# Altium footprint library Molex Microfit.PCBLIB: 196 footprints (part 10 of 13)
Each footprint in its own frame and in the unit in brackets; x right, y up, seen from the top. Pads: shape width x height; smd on the part's side, far side on the other; paste and mask are expansions set on the pad; w line width, h text height; cw(c..) or ccw(c..) is an arc to the next point about the centre after c.
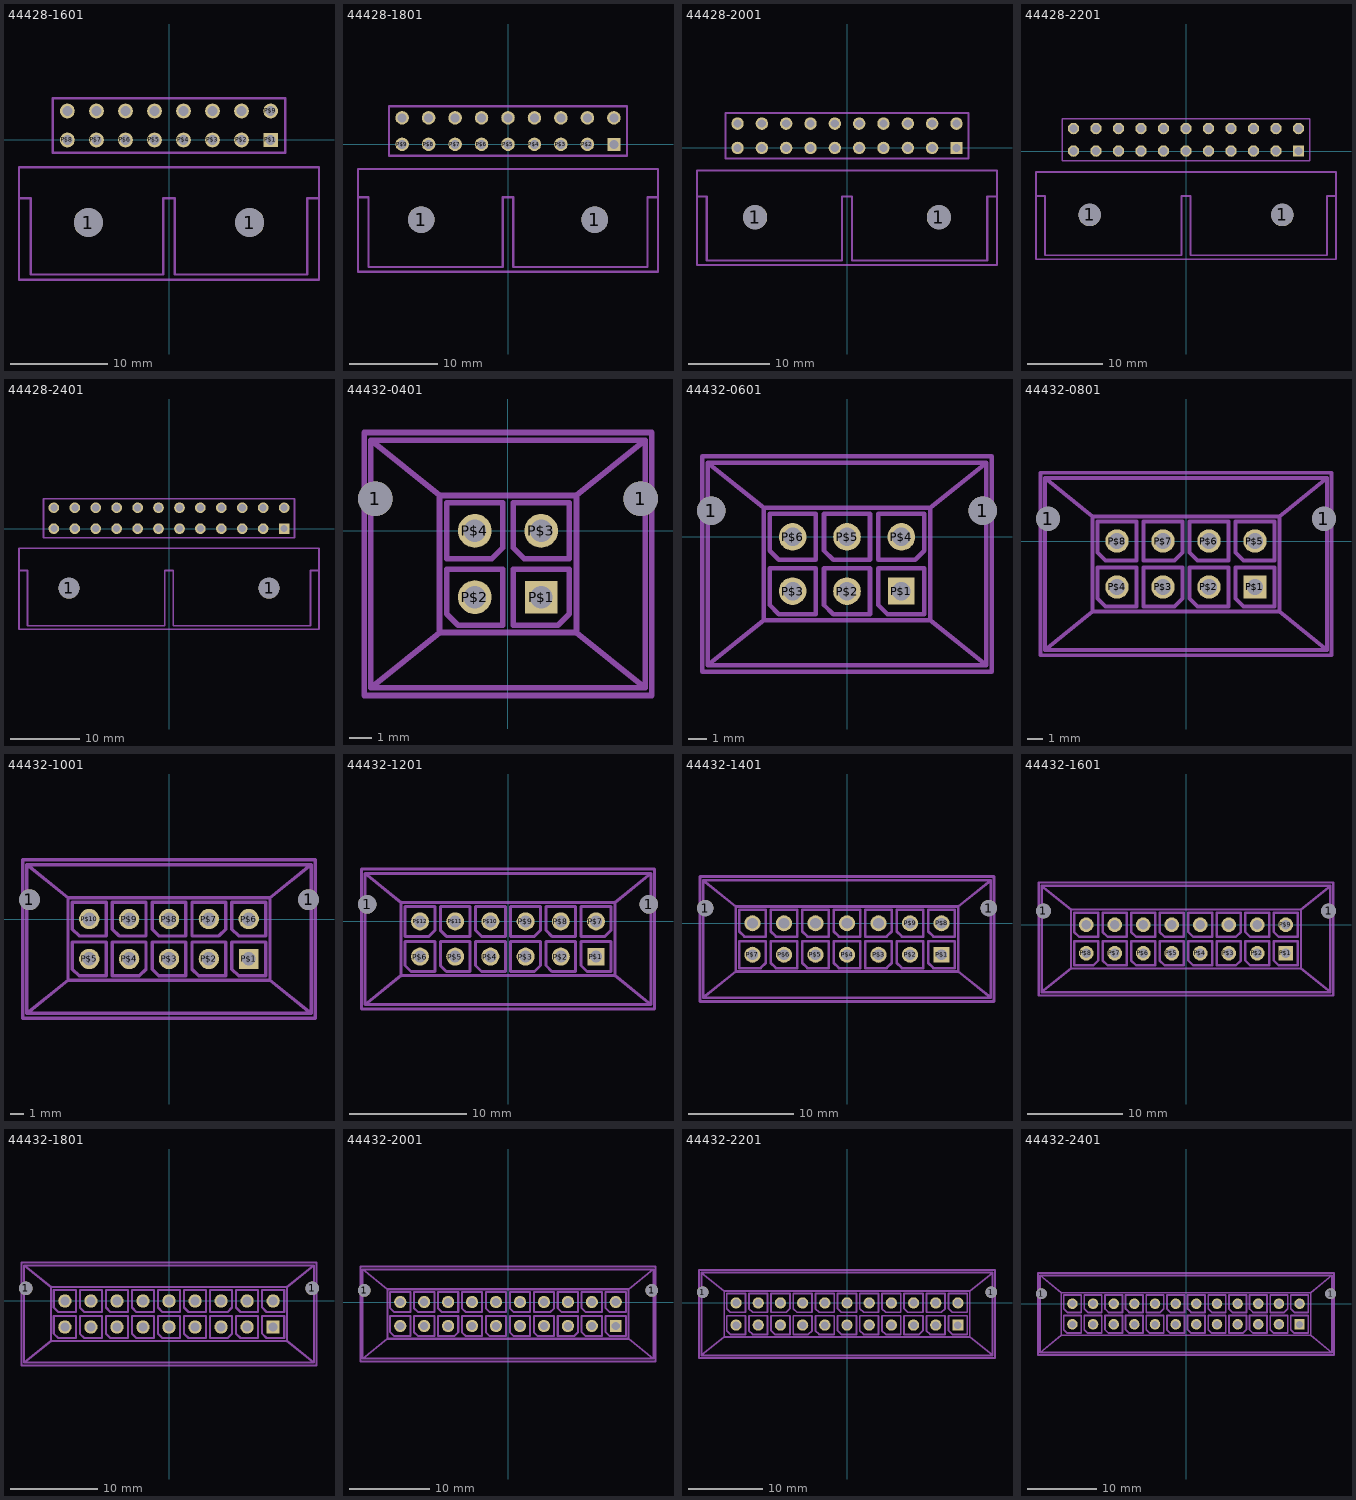
[diagram p9: the footprints below, top view; thin cyan lines are the x and y axes]

## 44428-1601 [mm]
pads (18):
  round 3 hole 3 unplated: 1(-8.34,-8.53) 1(8.34,-8.53)
  rect 1.482x1.482 / inner rect 1.524x1.524 / far side rect 1.482x1.482 hole 1.02: P$1(10.5,0)
  round 1.53 / inner round 1.524 / far side round 1.53 hole 1.02: P$2(7.5,0) P$3(4.5,0) P$4(1.5,0) P$5(-1.5,0) P$6(-4.5,0) P$7(-7.5,0) P$8(-10.5,0) P$9(10.5,3) P$10(7.5,3) P$11(4.5,3) P$12(1.5,3) P$13(-1.5,3) P$14(-4.5,3) P$15(-7.5,3) P$16(-10.5,3)
Mechanical 22:
  lines w0.254: -15.5,-6 -15.5,-2.8 15.5,-2.8 15.5,-6 ; -15.5,-6 -15.5,-14.43 15.5,-14.43 15.5,-6 ; -15.5,-6 -14.3,-6 -14.3,-13.9 -0.6,-13.9 -0.6,-6 0.6,-6 0.6,-13.9 14.3,-13.9 14.3,-6 15.5,-6 ; -12,-1.3 12,-1.3 12,4.3 -12,4.3 -12,-1.3

## 44428-1801 [mm]
pads (20):
  round 3 hole 3 unplated: 1(-9.84,-8.53) 1(9.84,-8.53)
  rect 1.482x1.482 / inner rect 1.524x1.524 / far side rect 1.482x1.482 hole 1.02: P$1(12,0)
  round 1.53 / inner round 1.524 / far side round 1.53 hole 1.02: P$2(9,0) P$3(6,0) P$4(3,0) P$5(0,0) P$6(-3,0) P$7(-6,0) P$8(-9,0) P$9(-12,0) P$10(12,3) P$11(9,3) P$12(6,3) P$13(3,3) P$14(0,3) P$15(-3,3) P$16(-6,3) P$17(-9,3) P$18(-12,3)
Mechanical 22:
  lines w0.254: -17,-6 -17,-2.8 17,-2.8 17,-6 ; -17,-6 -17,-14.43 17,-14.43 17,-6 ; -17,-6 -15.8,-6 -15.8,-13.9 -0.6,-13.9 -0.6,-6 0.6,-6 0.6,-13.9 15.8,-13.9 15.8,-6 17,-6 ; -13.5,-1.3 13.5,-1.3 13.5,4.3 -13.5,4.3 -13.5,-1.3

## 44428-2001 [mm]
pads (22):
  round 3 hole 3 unplated: 1(-11.34,-8.53) 1(11.34,-8.53)
  rect 1.482x1.482 / inner rect 1.524x1.524 / far side rect 1.482x1.482 hole 1.02: P$1(13.5,0)
  round 1.53 / inner round 1.524 / far side round 1.53 hole 1.02: P$2(10.5,0) P$3(7.5,0) P$4(4.5,0) P$5(1.5,0) P$6(-1.5,0) P$7(-4.5,0) P$8(-7.5,0) P$9(-10.5,0) P$10(-13.5,0) P$11(13.5,3) P$12(10.5,3) P$13(7.5,3) P$14(4.5,3) P$15(1.5,3) P$16(-1.5,3) P$17(-4.5,3) P$18(-7.5,3) P$19(-10.5,3) P$20(-13.5,3)
Mechanical 22:
  lines w0.254: -18.5,-6 -18.5,-2.8 18.5,-2.8 18.5,-6 ; -18.5,-6 -18.5,-14.43 18.5,-14.43 18.5,-6 ; -18.5,-6 -17.3,-6 -17.3,-13.9 -0.6,-13.9 -0.6,-6 0.6,-6 0.6,-13.9 17.3,-13.9 17.3,-6 18.5,-6 ; -15,-1.3 15,-1.3 15,4.3 -15,4.3 -15,-1.3

## 44428-2201 [mm]
pads (24):
  round 3 hole 3 unplated: 1(-12.84,-8.53) 1(12.84,-8.53)
  rect 1.482x1.482 / inner rect 1.524x1.524 / far side rect 1.482x1.482 hole 1.02: P$1(15,0)
  round 1.53 / inner round 1.524 / far side round 1.53 hole 1.02: P$2(12,0) P$3(9,0) P$4(6,0) P$5(3,0) P$6(0,0) P$7(-3,0) P$8(-6,0) P$9(-9,0) P$10(-12,0) P$11(-15,0) P$12(15,3) P$13(12,3) P$14(9,3) P$15(6,3) P$16(3,3) P$17(0,3) P$18(-3,3) P$19(-6,3) P$20(-9,3) P$21(-12,3) P$22(-15,3)
Mechanical 22:
  lines w0.254: -20,-6 -18.8,-6 -18.8,-13.9 -0.6,-13.9 -0.6,-6 0.6,-6 0.6,-13.9 18.8,-13.9 18.8,-6 20,-6 ; -20,-6 -20,-14.43 20,-14.43 20,-6 ; -20,-6 -20,-2.8 20,-2.8 20,-6 ; -16.5,-1.3 -16.5,4.3 16.5,4.3 16.5,-1.3 -16.5,-1.3

## 44428-2401 [mm]
pads (26):
  round 3 hole 3 unplated: 1(-14.34,-8.53) 1(14.34,-8.53)
  rect 1.482x1.482 / inner rect 1.524x1.524 / far side rect 1.482x1.482 hole 1.02: P$1(16.5,0)
  round 1.53 / inner round 1.524 / far side round 1.53 hole 1.02: P$2(13.5,0) P$3(10.5,0) P$4(7.5,0) P$5(4.5,0) P$6(1.5,0) P$7(-1.5,0) P$8(-4.5,0) P$9(-7.5,0) P$10(-10.5,0) P$11(-13.5,0) P$12(-16.5,0) P$13(16.5,3) P$14(13.5,3) P$15(10.5,3) P$16(7.5,3) P$17(4.5,3) P$18(1.5,3) P$19(-1.5,3) P$20(-4.5,3) P$21(-7.5,3) P$22(-10.5,3) P$23(-13.5,3) P$24(-16.5,3)
Mechanical 22:
  lines w0.254: -21.5,-6 -20.3,-6 -20.3,-13.9 -0.6,-13.9 -0.6,-6 0.6,-6 0.6,-13.9 20.3,-13.9 20.3,-6 21.5,-6 ; -21.5,-6 -21.5,-14.43 21.5,-14.43 21.5,-6 ; -21.5,-6 -21.5,-2.8 21.5,-2.8 21.5,-6 ; -18,-1.3 -18,4.3 18,4.3 18,-1.3 -18,-1.3

## 44432-0401 [mm]
pads (6):
  round 1.57 hole 1.57 unplated: 1(-6,1.45) 1(6,1.45)
  rect 1.482x1.482 / inner rect 1.524x1.524 / far side rect 1.482x1.482 hole 1.02: P$1(1.5,-3)
  round 1.53 / inner round 1.524 / far side round 1.53 hole 1.02: P$2(-1.5,-3) P$3(1.5,0) P$4(-1.5,0)
Mechanical 22:
  lines w0.254: -6.2,-7.1 6.2,-7.1 ; -6.2,-7.1 -6.2,4.1 ; -6.2,-7.1 -3.1,-4.6 ; -6.2,4.1 6.2,4.1 ; -6.2,4.1 -3.1,1.6 ; -3.1,-4.6 -3.1,1.6 ; -3.1,-4.6 3.1,-4.6 ; -3.1,1.6 3.1,1.6 ; 3.1,-4.6 3.1,1.6 ; 3.1,-4.6 6.2,-7.1 ; 3.1,1.6 6.2,4.1 ; 6.2,-7.1 6.2,4.1 ; -6.5,-7.45 6.5,-7.45 6.5,4.45 -6.5,4.45 -6.5,-7.45 ; -2.77,-3.762 -2.77,-1.73 -0.23,-1.73 -0.23,-4.27 -2.262,-4.27 -2.77,-3.762 ; -2.77,-1.27 -2.77,1.27 -0.23,1.27 -0.23,-0.762 -0.738,-1.27 -2.77,-1.27 ; 0.23,-4.27 0.23,-1.73 2.77,-1.73 2.77,-3.762 2.262,-4.27 0.23,-4.27 ; 0.23,-0.762 0.23,1.27 2.77,1.27 2.77,-1.27 0.738,-1.27 0.23,-0.762
3D body "444320401.stp": height 11.8, standoff -3.06, extent -6.5,-7.45 6.5,4.45

## 44432-0601 [mm]
pads (8):
  round 1.57 hole 1.57 unplated: 1(-7.5,1.45) 1(7.5,1.45)
  rect 1.482x1.482 / inner rect 1.524x1.524 / far side rect 1.482x1.482 hole 1.02: P$1(3,-3)
  round 1.53 / inner round 1.524 / far side round 1.53 hole 1.02: P$2(0,-3) P$3(-3,-3) P$4(3,0) P$5(0,0) P$6(-3,0)
Mechanical 22:
  lines w0.254: -7.7,-7.1 -4.6,-4.6 ; -7.7,-7.1 -7.7,4.1 ; -7.7,-7.1 7.7,-7.1 ; -7.7,4.1 -4.6,1.6 ; -7.7,4.1 7.7,4.1 ; -4.6,-4.6 4.6,-4.6 ; -4.6,-4.6 -4.6,1.6 ; -4.6,1.6 4.6,1.6 ; 4.6,-4.6 7.7,-7.1 ; 4.6,-4.6 4.6,1.6 ; 4.6,1.6 7.7,4.1 ; 7.7,-7.1 7.7,4.1 ; -8,-7.45 -8,4.45 8,4.45 8,-7.45 -8,-7.45 ; -4.27,-3.762 -3.762,-4.27 -1.73,-4.27 -1.73,-1.73 -4.27,-1.73 -4.27,-3.762 ; -4.27,-0.762 -3.762,-1.27 -1.73,-1.27 -1.73,1.27 -4.27,1.27 -4.27,-0.762 ; -1.27,-3.762 -0.762,-4.27 1.27,-4.27 1.27,-1.73 -1.27,-1.73 -1.27,-3.762 ; -1.27,-0.762 -0.762,-1.27 1.27,-1.27 1.27,1.27 -1.27,1.27 -1.27,-0.762 ; 1.73,-3.762 2.238,-4.27 4.27,-4.27 4.27,-1.73 1.73,-1.73 1.73,-3.762 ; 1.73,-1.27 3.762,-1.27 4.27,-0.762 4.27,1.27 1.73,1.27 1.73,-1.27

## 44432-0801 [mm]
pads (10):
  round 1.57 hole 1.57 unplated: 1(-9,1.45) 1(9,1.45)
  rect 1.482x1.482 / inner rect 1.524x1.524 / far side rect 1.482x1.482 hole 1.02: P$1(4.5,-3)
  round 1.53 / inner round 1.524 / far side round 1.53 hole 1.02: P$2(1.5,-3) P$3(-1.5,-3) P$4(-4.5,-3) P$5(4.5,0) P$6(1.5,0) P$7(-1.5,0) P$8(-4.5,0)
Mechanical 22:
  lines w0.254: -9.2,-7.1 -6.1,-4.6 ; -9.2,-7.1 -9.2,4.1 ; -9.2,-7.1 9.2,-7.1 ; -9.2,4.1 -6.1,1.6 ; -9.2,4.1 9.2,4.1 ; -6.1,-4.6 6.1,-4.6 ; -6.1,-4.6 -6.1,1.6 ; -6.1,1.6 6.1,1.6 ; 6.1,-4.6 9.2,-7.1 ; 6.1,-4.6 6.1,1.6 ; 6.1,1.6 9.2,4.1 ; 9.2,-7.1 9.2,4.1 ; -9.5,-7.45 -9.5,4.45 9.5,4.45 9.5,-7.45 -9.5,-7.45 ; -5.77,-3.762 -5.262,-4.27 -3.23,-4.27 -3.23,-1.73 -5.77,-1.73 -5.77,-3.762 ; -5.77,-0.762 -5.262,-1.27 -3.23,-1.27 -3.23,1.27 -5.77,1.27 -5.77,-0.762 ; -2.77,-4.27 -0.738,-4.27 -0.23,-3.762 -0.23,-1.73 -2.77,-1.73 -2.77,-4.27 ; -2.77,-1.27 -0.738,-1.27 -0.23,-0.762 -0.23,1.27 -2.77,1.27 -2.77,-1.27 ; 0.23,-3.762 0.738,-4.27 2.77,-4.27 2.77,-1.73 0.23,-1.73 0.23,-3.762 ; 0.23,-0.762 0.738,-1.27 2.77,-1.27 2.77,1.27 0.23,1.27 0.23,-0.762 ; 3.23,-3.762 3.738,-4.27 5.77,-4.27 5.77,-1.73 3.23,-1.73 3.23,-3.762 ; 3.23,-0.762 3.738,-1.27 5.77,-1.27 5.77,1.27 3.23,1.27 3.23,-0.762

## 44432-1001 [mm]
pads (12):
  round 1.57 hole 1.57 unplated: 1(-10.5,1.45) 1(10.5,1.45)
  rect 1.482x1.482 / inner rect 1.524x1.524 / far side rect 1.482x1.482 hole 1.02: P$1(6,-3)
  round 1.53 / inner round 1.524 / far side round 1.53 hole 1.02: P$2(3,-3) P$3(0,-3) P$4(-3,-3) P$5(-6,-3) P$6(6,0) P$7(3,0) P$8(0,0) P$9(-3,0) P$10(-6,0)
Mechanical 22:
  lines w0.254: -10.7,-7.1 -7.6,-4.6 ; -10.7,-7.1 -10.7,4.1 ; -10.7,-7.1 10.7,-7.1 ; -10.7,4.1 -7.6,1.6 ; -10.7,4.1 10.7,4.1 ; -7.6,-4.6 7.6,-4.6 ; -7.6,-4.6 -7.6,1.6 ; -7.6,1.6 7.6,1.6 ; 7.6,-4.6 10.7,-7.1 ; 7.6,-4.6 7.6,1.6 ; 7.6,1.6 10.7,4.1 ; 10.7,-7.1 10.7,4.1 ; -11,-7.45 -11,4.45 11,4.45 11,-7.45 -11,-7.45 ; -7.27,-3.762 -6.762,-4.27 -4.73,-4.27 -4.73,-1.73 -7.27,-1.73 -7.27,-3.762 ; -7.27,-0.762 -6.762,-1.27 -4.73,-1.27 -4.73,1.27 -7.27,1.27 -7.27,-0.762 ; -4.27,-4.27 -2.238,-4.27 -1.73,-3.762 -1.73,-1.73 -4.27,-1.73 -4.27,-4.27 ; -4.27,-0.762 -3.762,-1.27 -1.73,-1.27 -1.73,1.27 -4.27,1.27 -4.27,-0.762 ; -1.27,-3.762 -0.762,-4.27 1.27,-4.27 1.27,-1.73 -1.27,-1.73 -1.27,-3.762 ; -1.27,-0.762 -0.762,-1.27 1.27,-1.27 1.27,1.27 -1.27,1.27 -1.27,-0.762 ; 1.73,-3.762 2.238,-4.27 4.27,-4.27 4.27,-1.73 1.73,-1.73 1.73,-3.762 ; 1.73,-1.27 3.762,-1.27 4.27,-0.762 4.27,1.27 1.73,1.27 1.73,-1.27 ; 4.73,-3.762 5.238,-4.27 7.27,-4.27 7.27,-1.73 4.73,-1.73 4.73,-3.762 ; 4.73,-0.762 5.238,-1.27 7.27,-1.27 7.27,1.27 4.73,1.27 4.73,-0.762

## 44432-1201 [mm]
pads (14):
  round 1.57 hole 1.57 unplated: 1(-12,1.45) 1(12,1.45)
  rect 1.482x1.482 / inner rect 1.524x1.524 / far side rect 1.482x1.482 hole 1.02: P$1(7.5,-3)
  round 1.53 / inner round 1.524 / far side round 1.53 hole 1.02: P$2(4.5,-3) P$3(1.5,-3) P$4(-1.5,-3) P$5(-4.5,-3) P$6(-7.5,-3) P$7(7.5,0) P$8(4.5,0) P$9(1.5,0) P$10(-1.5,0) P$11(-4.5,0) P$12(-7.5,0)
Mechanical 22:
  lines w0.254: -12.2,-7.1 -9.1,-4.6 ; -12.2,-7.1 -12.2,4.1 ; -12.2,-7.1 12.2,-7.1 ; -12.2,4.1 -9.1,1.6 ; -12.2,4.1 12.2,4.1 ; -9.1,-4.6 9.1,-4.6 ; -9.1,-4.6 -9.1,1.6 ; -9.1,1.6 9.1,1.6 ; 9.1,-4.6 12.2,-7.1 ; 9.1,-4.6 9.1,1.6 ; 9.1,1.6 12.2,4.1 ; 12.2,-7.1 12.2,4.1 ; -12.5,-7.45 -12.5,4.45 12.5,4.45 12.5,-7.45 -12.5,-7.45 ; -8.77,-3.762 -8.262,-4.27 -6.23,-4.27 -6.23,-1.73 -8.77,-1.73 -8.77,-3.762 ; -8.77,-1.27 -6.738,-1.27 -6.23,-0.762 -6.23,1.27 -8.77,1.27 -8.77,-1.27 ; -5.77,-3.762 -5.262,-4.27 -3.23,-4.27 -3.23,-1.73 -5.77,-1.73 -5.77,-3.762 ; -5.77,-0.762 -5.262,-1.27 -3.23,-1.27 -3.23,1.27 -5.77,1.27 -5.77,-0.762 ; -2.77,-3.762 -2.262,-4.27 -0.23,-4.27 -0.23,-1.73 -2.77,-1.73 -2.77,-3.762 ; -2.77,-0.762 -2.262,-1.27 -0.23,-1.27 -0.23,1.27 -2.77,1.27 -2.77,-0.762 ; 0.23,-4.27 2.262,-4.27 2.77,-3.762 2.77,-1.73 0.23,-1.73 0.23,-4.27 ; 0.23,-1.27 2.262,-1.27 2.77,-0.762 2.77,1.27 0.23,1.27 0.23,-1.27 ; 3.23,-3.762 3.738,-4.27 5.77,-4.27 5.77,-1.73 3.23,-1.73 3.23,-3.762 ; 3.23,-0.762 3.738,-1.27 5.77,-1.27 5.77,1.27 3.23,1.27 3.23,-0.762 ; 6.23,-3.762 6.738,-4.27 8.77,-4.27 8.77,-1.73 6.23,-1.73 6.23,-3.762 ; 6.23,-1.27 8.262,-1.27 8.77,-0.762 8.77,1.27 6.23,1.27 6.23,-1.27

## 44432-1401 [mm]
pads (16):
  round 1.57 hole 1.57 unplated: 1(-13.5,1.45) 1(13.5,1.45)
  rect 1.482x1.482 / inner rect 1.524x1.524 / far side rect 1.482x1.482 hole 1.02: P$1(9,-3)
  round 1.53 / inner round 1.524 / far side round 1.53 hole 1.02: P$2(6,-3) P$3(3,-3) P$4(0,-3) P$5(-3,-3) P$6(-6,-3) P$7(-9,-3) P$8(9,0) P$9(6,0) P$10(3,0) P$11(0,0) P$12(-3,0) P$13(-6,0) P$14(-9,0)
Mechanical 22:
  lines w0.254: -13.7,-7.1 -10.6,-4.6 ; -13.7,-7.1 -13.7,4.1 ; -13.7,-7.1 13.7,-7.1 ; -13.7,4.1 -10.6,1.6 ; -13.7,4.1 13.7,4.1 ; -10.6,-4.6 10.6,-4.6 ; -10.6,-4.6 -10.6,1.6 ; -10.6,1.6 10.6,1.6 ; 10.6,-4.6 13.7,-7.1 ; 10.6,-4.6 10.6,1.6 ; 10.6,1.6 13.7,4.1 ; 13.7,-7.1 13.7,4.1 ; -14,-7.45 -14,4.45 14,4.45 14,-7.45 -14,-7.45 ; -10.27,-4.27 -8.238,-4.27 -7.73,-3.762 -7.73,-1.73 -10.27,-1.73 -10.27,-4.27 ; -10.27,-0.762 -9.762,-1.27 -7.73,-1.27 -7.73,1.27 -10.27,1.27 -10.27,-0.762 ; -7.27,-3.762 -6.762,-4.27 -4.73,-4.27 -4.73,-1.73 -7.27,-1.73 -7.27,-3.762 ; -7.27,-0.762 -6.762,-1.27 -4.73,-1.27 -4.73,1.27 -7.27,1.27 -7.27,-0.762 ; -4.27,-3.762 -3.762,-4.27 -1.73,-4.27 -1.73,-1.73 -4.27,-1.73 -4.27,-3.762 ; -4.27,-0.762 -3.762,-1.27 -1.73,-1.27 -1.73,1.27 -4.27,1.27 -4.27,-0.762 ; -1.27,-3.762 -0.762,-4.27 1.27,-4.27 1.27,-1.73 -1.27,-1.73 -1.27,-3.762 ; -1.27,-0.762 -0.762,-1.27 1.27,-1.27 1.27,1.27 -1.27,1.27 -1.27,-0.762 ; 1.73,-4.27 3.762,-4.27 4.27,-3.762 4.27,-1.73 1.73,-1.73 1.73,-4.27 ; 1.73,-1.27 3.762,-1.27 4.27,-0.762 4.27,1.27 1.73,1.27 1.73,-1.27 ; 4.73,-3.762 5.238,-4.27 7.27,-4.27 7.27,-1.73 4.73,-1.73 4.73,-3.762 ; 4.73,-0.762 5.238,-1.27 7.27,-1.27 7.27,1.27 4.73,1.27 4.73,-0.762 ; 7.73,-3.762 8.238,-4.27 10.27,-4.27 10.27,-1.73 7.73,-1.73 7.73,-3.762 ; 7.73,-0.762 8.238,-1.27 10.27,-1.27 10.27,1.27 7.73,1.27 7.73,-0.762

## 44432-1601 [mm]
pads (18):
  round 1.57 hole 1.57 unplated: 1(-15,1.45) 1(15,1.45)
  rect 1.482x1.482 / inner rect 1.524x1.524 / far side rect 1.482x1.482 hole 1.02: P$1(10.5,-3)
  round 1.53 / inner round 1.524 / far side round 1.53 hole 1.02: P$2(7.5,-3) P$3(4.5,-3) P$4(1.5,-3) P$5(-1.5,-3) P$6(-4.5,-3) P$7(-7.5,-3) P$8(-10.5,-3) P$9(10.5,0) P$10(7.5,0) P$11(4.5,0) P$12(1.5,0) P$13(-1.5,0) P$14(-4.5,0) P$15(-7.5,0) P$16(-10.5,0)
Mechanical 22:
  lines w0.254: -15.2,-7.1 -12.1,-4.6 ; -15.2,-7.1 -15.2,4.1 ; -15.2,-7.1 15.2,-7.1 ; -15.2,4.1 -12.1,1.6 ; -15.2,4.1 15.2,4.1 ; -12.1,-4.6 12.1,-4.6 ; -12.1,-4.6 -12.1,1.6 ; -12.1,1.6 12.1,1.6 ; 12.1,-4.6 15.2,-7.1 ; 12.1,-4.6 12.1,1.6 ; 12.1,1.6 15.2,4.1 ; 15.2,-7.1 15.2,4.1 ; -15.5,-7.45 -15.5,4.45 15.5,4.45 15.5,-7.45 -15.5,-7.45 ; -11.77,-4.27 -9.738,-4.27 -9.23,-3.762 -9.23,-1.73 -11.77,-1.73 -11.77,-4.27 ; -11.77,-0.762 -11.262,-1.27 -9.23,-1.27 -9.23,1.27 -11.77,1.27 -11.77,-0.762 ; -8.77,-3.762 -8.262,-4.27 -6.23,-4.27 -6.23,-1.73 -8.77,-1.73 -8.77,-3.762 ; -8.77,-0.762 -8.262,-1.27 -6.23,-1.27 -6.23,1.27 -8.77,1.27 -8.77,-0.762 ; -5.77,-3.762 -5.262,-4.27 -3.23,-4.27 -3.23,-1.73 -5.77,-1.73 -5.77,-3.762 ; -5.77,-0.762 -5.262,-1.27 -3.23,-1.27 -3.23,1.27 -5.77,1.27 -5.77,-0.762 ; -2.77,-3.762 -2.262,-4.27 -0.23,-4.27 -0.23,-1.73 -2.77,-1.73 -2.77,-3.762 ; -2.77,-0.762 -2.262,-1.27 -0.23,-1.27 -0.23,1.27 -2.77,1.27 -2.77,-0.762 ; 0.23,-3.762 0.738,-4.27 2.77,-4.27 2.77,-1.73 0.23,-1.73 0.23,-3.762 ; 0.23,-0.762 0.738,-1.27 2.77,-1.27 2.77,1.27 0.23,1.27 0.23,-0.762 ; 3.23,-4.27 5.262,-4.27 5.77,-3.762 5.77,-1.73 3.23,-1.73 3.23,-4.27 ; 3.23,-1.27 5.262,-1.27 5.77,-0.762 5.77,1.27 3.23,1.27 3.23,-1.27 ; 6.23,-3.762 6.738,-4.27 8.77,-4.27 8.77,-1.73 6.23,-1.73 6.23,-3.762 ; 6.23,-0.762 6.738,-1.27 8.77,-1.27 8.77,1.27 6.23,1.27 6.23,-0.762 ; 9.23,-3.762 9.738,-4.27 11.77,-4.27 11.77,-1.73 9.23,-1.73 9.23,-3.762 ; 9.23,-0.762 9.738,-1.27 11.77,-1.27 11.77,1.27 9.23,1.27 9.23,-0.762

## 44432-1801 [mm]
pads (20):
  round 1.57 hole 1.57 unplated: 1(-16.5,1.45) 1(16.5,1.45)
  rect 1.482x1.482 / inner rect 1.524x1.524 / far side rect 1.482x1.482 hole 1.02: P$1(12,-3)
  round 1.53 / inner round 1.524 / far side round 1.53 hole 1.02: P$2(9,-3) P$3(6,-3) P$4(3,-3) P$5(0,-3) P$6(-3,-3) P$7(-6,-3) P$8(-9,-3) P$9(-12,-3) P$10(12,0) P$11(9,0) P$12(6,0) P$13(3,0) P$14(0,0) P$15(-3,0) P$16(-6,0) P$17(-9,0) P$18(-12,0)
Mechanical 22:
  lines w0.254: -16.7,-7.1 16.7,-7.1 ; -16.7,-7.1 -16.7,4.1 ; -16.7,-7.1 -13.6,-4.6 ; -16.7,4.1 16.7,4.1 ; -16.7,4.1 -13.6,1.6 ; -13.6,-4.6 -13.6,1.6 ; -13.6,-4.6 13.6,-4.6 ; -13.6,1.6 13.6,1.6 ; 13.6,-4.6 13.6,1.6 ; 13.6,-4.6 16.7,-7.1 ; 13.6,1.6 16.7,4.1 ; 16.7,-7.1 16.7,4.1 ; -17,-7.45 17,-7.45 17,4.45 -17,4.45 -17,-7.45 ; -13.27,-3.762 -13.27,-1.73 -10.73,-1.73 -10.73,-4.27 -12.762,-4.27 -13.27,-3.762 ; -13.27,-0.762 -13.27,1.27 -10.73,1.27 -10.73,-1.27 -12.762,-1.27 -13.27,-0.762 ; -10.27,-3.762 -10.27,-1.73 -7.73,-1.73 -7.73,-4.27 -9.762,-4.27 -10.27,-3.762 ; -10.27,-0.762 -10.27,1.27 -7.73,1.27 -7.73,-1.27 -9.762,-1.27 -10.27,-0.762 ; -7.27,-3.762 -7.27,-1.73 -4.73,-1.73 -4.73,-4.27 -6.762,-4.27 -7.27,-3.762 ; -7.27,-0.762 -7.27,1.27 -4.73,1.27 -4.73,-1.27 -6.762,-1.27 -7.27,-0.762 ; -4.27,-3.762 -4.27,-1.73 -1.73,-1.73 -1.73,-4.27 -3.762,-4.27 -4.27,-3.762 ; -4.27,-0.762 -4.27,1.27 -1.73,1.27 -1.73,-1.27 -3.762,-1.27 -4.27,-0.762 ; -1.27,-3.762 -1.27,-1.73 1.27,-1.73 1.27,-4.27 -0.762,-4.27 -1.27,-3.762 ; -1.27,-0.762 -1.27,1.27 1.27,1.27 1.27,-1.27 -0.762,-1.27 -1.27,-0.762 ; 1.73,-3.762 1.73,-1.73 4.27,-1.73 4.27,-4.27 2.238,-4.27 1.73,-3.762 ; 1.73,-0.762 1.73,1.27 4.27,1.27 4.27,-1.27 2.238,-1.27 1.73,-0.762 ; 4.73,-4.27 4.73,-1.73 7.27,-1.73 7.27,-3.762 6.762,-4.27 4.73,-4.27 ; 4.73,-1.27 4.73,1.27 7.27,1.27 7.27,-0.762 6.762,-1.27 4.73,-1.27 ; 7.73,-3.762 7.73,-1.73 10.27,-1.73 10.27,-4.27 8.238,-4.27 7.73,-3.762 ; 7.73,-0.762 7.73,1.27 10.27,1.27 10.27,-1.27 8.238,-1.27 7.73,-0.762 ; 10.73,-3.762 10.73,-1.73 13.27,-1.73 13.27,-4.27 11.238,-4.27 10.73,-3.762 ; 10.73,-0.762 10.73,1.27 13.27,1.27 13.27,-1.27 11.238,-1.27 10.73,-0.762

## 44432-2001 [mm]
pads (22):
  round 1.57 hole 1.57 unplated: 1(-18,1.45) 1(18,1.45)
  rect 1.482x1.482 / inner rect 1.524x1.524 / far side rect 1.482x1.482 hole 1.02: P$1(13.5,-3)
  round 1.53 / inner round 1.524 / far side round 1.53 hole 1.02: P$2(10.5,-3) P$3(7.5,-3) P$4(4.5,-3) P$5(1.5,-3) P$6(-1.5,-3) P$7(-4.5,-3) P$8(-7.5,-3) P$9(-10.5,-3) P$10(-13.5,-3) P$11(13.5,0) P$12(10.5,0) P$13(7.5,0) P$14(4.5,0) P$15(1.5,0) P$16(-1.5,0) P$17(-4.5,0) P$18(-7.5,0) P$19(-10.5,0) P$20(-13.5,0)
Mechanical 22:
  lines w0.254: -18.2,-7.1 -15.1,-4.6 ; -18.2,-7.1 -18.2,4.1 ; -18.2,-7.1 18.2,-7.1 ; -18.2,4.1 -15.1,1.6 ; -18.2,4.1 18.2,4.1 ; -15.1,-4.6 15.1,-4.6 ; -15.1,-4.6 -15.1,1.6 ; -15.1,1.6 15.1,1.6 ; 15.1,-4.6 18.2,-7.1 ; 15.1,-4.6 15.1,1.6 ; 15.1,1.6 18.2,4.1 ; 18.2,-7.1 18.2,4.1 ; -18.5,-7.45 -18.5,4.45 18.5,4.45 18.5,-7.45 -18.5,-7.45 ; -14.77,-3.762 -14.262,-4.27 -12.23,-4.27 -12.23,-1.73 -14.77,-1.73 -14.77,-3.762 ; -14.77,-0.762 -14.262,-1.27 -12.23,-1.27 -12.23,1.27 -14.77,1.27 -14.77,-0.762 ; -11.77,-3.762 -11.262,-4.27 -9.23,-4.27 -9.23,-1.73 -11.77,-1.73 -11.77,-3.762 ; -11.77,-0.762 -11.262,-1.27 -9.23,-1.27 -9.23,1.27 -11.77,1.27 -11.77,-0.762 ; -8.77,-4.27 -6.738,-4.27 -6.23,-3.762 -6.23,-1.73 -8.77,-1.73 -8.77,-4.27 ; -8.77,-0.762 -8.262,-1.27 -6.23,-1.27 -6.23,1.27 -8.77,1.27 -8.77,-0.762 ; -5.77,-3.762 -5.262,-4.27 -3.23,-4.27 -3.23,-1.73 -5.77,-1.73 -5.77,-3.762 ; -5.77,-0.762 -5.262,-1.27 -3.23,-1.27 -3.23,1.27 -5.77,1.27 -5.77,-0.762 ; -2.77,-3.762 -2.262,-4.27 -0.23,-4.27 -0.23,-1.73 -2.77,-1.73 -2.77,-3.762 ; -2.77,-0.762 -2.262,-1.27 -0.23,-1.27 -0.23,1.27 -2.77,1.27 -2.77,-0.762 ; 0.23,-3.762 0.738,-4.27 2.77,-4.27 2.77,-1.73 0.23,-1.73 0.23,-3.762 ; 0.23,-0.762 0.738,-1.27 2.77,-1.27 2.77,1.27 0.23,1.27 0.23,-0.762 ; 3.23,-3.762 3.738,-4.27 5.77,-4.27 5.77,-1.73 3.23,-1.73 3.23,-3.762 ; 3.23,-1.27 5.262,-1.27 5.77,-0.762 5.77,1.27 3.23,1.27 3.23,-1.27 ; 6.23,-4.27 8.262,-4.27 8.77,-3.762 8.77,-1.73 6.23,-1.73 6.23,-4.27 ; 6.23,-0.762 6.738,-1.27 8.77,-1.27 8.77,1.27 6.23,1.27 6.23,-0.762 ; 9.23,-3.762 9.738,-4.27 11.77,-4.27 11.77,-1.73 9.23,-1.73 9.23,-3.762 ; 9.23,-0.762 9.738,-1.27 11.77,-1.27 11.77,1.27 9.23,1.27 9.23,-0.762 ; 12.23,-3.762 12.738,-4.27 14.77,-4.27 14.77,-1.73 12.23,-1.73 12.23,-3.762 ; 12.23,-0.762 12.738,-1.27 14.77,-1.27 14.77,1.27 12.23,1.27 12.23,-0.762

## 44432-2201 [mm]
pads (24):
  round 1.57 hole 1.57 unplated: 1(-19.5,1.45) 1(19.5,1.45)
  rect 1.482x1.482 / inner rect 1.524x1.524 / far side rect 1.482x1.482 hole 1.02: P$1(15,-3)
  round 1.53 / inner round 1.524 / far side round 1.53 hole 1.02: P$2(12,-3) P$3(9,-3) P$4(6,-3) P$5(3,-3) P$6(0,-3) P$7(-3,-3) P$8(-6,-3) P$9(-9,-3) P$10(-12,-3) P$11(-15,-3) P$12(15,0) P$13(12,0) P$14(9,0) P$15(6,0) P$16(3,0) P$17(0,0) P$18(-3,0) P$19(-6,0) P$20(-9,0) P$21(-12,0) P$22(-15,0)
Mechanical 22:
  lines w0.254: -19.7,-7.1 19.7,-7.1 ; -19.7,-7.1 -19.7,4.1 ; -19.7,-7.1 -16.6,-4.6 ; -19.7,4.1 19.7,4.1 ; -19.7,4.1 -16.6,1.6 ; -16.6,-4.6 -16.6,1.6 ; -16.6,-4.6 16.6,-4.6 ; -16.6,1.6 16.6,1.6 ; 16.6,-4.6 16.6,1.6 ; 16.6,-4.6 19.7,-7.1 ; 16.6,1.6 19.7,4.1 ; 19.7,-7.1 19.7,4.1 ; -20,-7.45 20,-7.45 20,4.45 -20,4.45 -20,-7.45 ; -16.27,-3.762 -16.27,-1.73 -13.73,-1.73 -13.73,-4.27 -15.762,-4.27 -16.27,-3.762 ; -16.27,-0.762 -16.27,1.27 -13.73,1.27 -13.73,-1.27 -15.762,-1.27 -16.27,-0.762 ; -13.27,-3.762 -13.27,-1.73 -10.73,-1.73 -10.73,-4.27 -12.762,-4.27 -13.27,-3.762 ; -13.27,-0.762 -13.27,1.27 -10.73,1.27 -10.73,-1.27 -12.762,-1.27 -13.27,-0.762 ; -10.27,-3.762 -10.27,-1.73 -7.73,-1.73 -7.73,-4.27 -9.762,-4.27 -10.27,-3.762 ; -10.27,-1.27 -10.27,1.27 -7.73,1.27 -7.73,-0.762 -8.238,-1.27 -10.27,-1.27 ; -7.27,-4.27 -7.27,-1.73 -4.73,-1.73 -4.73,-3.762 -5.238,-4.27 -7.27,-4.27 ; -7.27,-0.762 -7.27,1.27 -4.73,1.27 -4.73,-1.27 -6.762,-1.27 -7.27,-0.762 ; -4.27,-3.762 -4.27,-1.73 -1.73,-1.73 -1.73,-4.27 -3.762,-4.27 -4.27,-3.762 ; -4.27,-0.762 -4.27,1.27 -1.73,1.27 -1.73,-1.27 -3.762,-1.27 -4.27,-0.762 ; -1.27,-3.762 -1.27,-1.73 1.27,-1.73 1.27,-4.27 -0.762,-4.27 -1.27,-3.762 ; -1.27,-0.762 -1.27,1.27 1.27,1.27 1.27,-1.27 -0.762,-1.27 -1.27,-0.762 ; 1.73,-3.762 1.73,-1.73 4.27,-1.73 4.27,-4.27 2.238,-4.27 1.73,-3.762 ; 1.73,-0.762 1.73,1.27 4.27,1.27 4.27,-1.27 2.238,-1.27 1.73,-0.762 ; 4.73,-3.762 4.73,-1.73 7.27,-1.73 7.27,-4.27 5.238,-4.27 4.73,-3.762 ; 4.73,-0.762 4.73,1.27 7.27,1.27 7.27,-1.27 5.238,-1.27 4.73,-0.762 ; 7.73,-4.27 7.73,-1.73 10.27,-1.73 10.27,-3.762 9.762,-4.27 7.73,-4.27 ; 7.73,-0.762 7.73,1.27 10.27,1.27 10.27,-1.27 8.238,-1.27 7.73,-0.762 ; 10.73,-3.762 10.73,-1.73 13.27,-1.73 13.27,-4.27 11.238,-4.27 10.73,-3.762 ; 10.73,-1.27 10.73,1.27 13.27,1.27 13.27,-0.762 12.762,-1.27 10.73,-1.27 ; 13.73,-3.762 13.73,-1.73 16.27,-1.73 16.27,-4.27 14.238,-4.27 13.73,-3.762 ; 13.73,-0.762 13.73,1.27 16.27,1.27 16.27,-1.27 14.238,-1.27 13.73,-0.762

## 44432-2401 [mm]
pads (26):
  round 1.57 hole 1.57 unplated: 1(-21,1.45) 1(21,1.45)
  rect 1.482x1.482 / inner rect 1.524x1.524 / far side rect 1.482x1.482 hole 1.02: P$1(16.5,-3)
  round 1.53 / inner round 1.524 / far side round 1.53 hole 1.02: P$2(13.5,-3) P$3(10.5,-3) P$4(7.5,-3) P$5(4.5,-3) P$6(1.5,-3) P$7(-1.5,-3) P$8(-4.5,-3) P$9(-7.5,-3) P$10(-10.5,-3) P$11(-13.5,-3) P$12(-16.5,-3) P$13(16.5,0) P$14(13.5,0) P$15(10.5,0) P$16(7.5,0) P$17(4.5,0) P$18(1.5,0) P$19(-1.5,0) P$20(-4.5,0) P$21(-7.5,0) P$22(-10.5,0) P$23(-13.5,0) P$24(-16.5,0)
Mechanical 22:
  lines w0.254: -21.2,-7.1 -18.1,-4.6 ; -21.2,-7.1 -21.2,4.1 ; -21.2,-7.1 21.2,-7.1 ; -21.2,4.1 -18.1,1.6 ; -21.2,4.1 21.2,4.1 ; -18.1,-4.6 18.1,-4.6 ; -18.1,-4.6 -18.1,1.6 ; -18.1,1.6 18.1,1.6 ; 18.1,-4.6 21.2,-7.1 ; 18.1,-4.6 18.1,1.6 ; 18.1,1.6 21.2,4.1 ; 21.2,-7.1 21.2,4.1 ; -21.5,-7.45 -21.5,4.45 21.5,4.45 21.5,-7.45 -21.5,-7.45 ; -17.77,-3.762 -17.262,-4.27 -15.23,-4.27 -15.23,-1.73 -17.77,-1.73 -17.77,-3.762 ; -17.77,-0.762 -17.262,-1.27 -15.23,-1.27 -15.23,1.27 -17.77,1.27 -17.77,-0.762 ; -14.77,-3.762 -14.262,-4.27 -12.23,-4.27 -12.23,-1.73 -14.77,-1.73 -14.77,-3.762 ; -14.77,-0.762 -14.262,-1.27 -12.23,-1.27 -12.23,1.27 -14.77,1.27 -14.77,-0.762 ; -11.77,-3.762 -11.262,-4.27 -9.23,-4.27 -9.23,-1.73 -11.77,-1.73 -11.77,-3.762 ; -11.77,-0.762 -11.262,-1.27 -9.23,-1.27 -9.23,1.27 -11.77,1.27 -11.77,-0.762 ; -8.77,-3.762 -8.262,-4.27 -6.23,-4.27 -6.23,-1.73 -8.77,-1.73 -8.77,-3.762 ; -8.77,-0.762 -8.262,-1.27 -6.23,-1.27 -6.23,1.27 -8.77,1.27 -8.77,-0.762 ; -5.77,-3.762 -5.262,-4.27 -3.23,-4.27 -3.23,-1.73 -5.77,-1.73 -5.77,-3.762 ; -5.77,-1.27 -3.738,-1.27 -3.23,-0.762 -3.23,1.27 -5.77,1.27 -5.77,-1.27 ; -2.77,-3.762 -2.262,-4.27 -0.23,-4.27 -0.23,-1.73 -2.77,-1.73 -2.77,-3.762 ; -2.77,-0.762 -2.262,-1.27 -0.23,-1.27 -0.23,1.27 -2.77,1.27 -2.77,-0.762 ; 0.23,-3.762 0.738,-4.27 2.77,-4.27 2.77,-1.73 0.23,-1.73 0.23,-3.762 ; 0.23,-0.762 0.738,-1.27 2.77,-1.27 2.77,1.27 0.23,1.27 0.23,-0.762 ; 3.23,-3.762 3.738,-4.27 5.77,-4.27 5.77,-1.73 3.23,-1.73 3.23,-3.762 ; 3.23,-0.762 3.738,-1.27 5.77,-1.27 5.77,1.27 3.23,1.27 3.23,-0.762 ; 6.23,-4.27 8.262,-4.27 8.77,-3.762 8.77,-1.73 6.23,-1.73 6.23,-4.27 ; 6.23,-0.762 6.738,-1.27 8.77,-1.27 8.77,1.27 6.23,1.27 6.23,-0.762 ; 9.23,-3.762 9.738,-4.27 11.77,-4.27 11.77,-1.73 9.23,-1.73 9.23,-3.762 ; 9.23,-0.762 9.738,-1.27 11.77,-1.27 11.77,1.27 9.23,1.27 9.23,-0.762 ; 12.23,-3.762 12.738,-4.27 14.77,-4.27 14.77,-1.73 12.23,-1.73 12.23,-3.762 ; 12.23,-1.27 14.262,-1.27 14.77,-0.762 14.77,1.27 12.23,1.27 12.23,-1.27 ; 15.23,-3.762 15.738,-4.27 17.77,-4.27 17.77,-1.73 15.23,-1.73 15.23,-3.762 ; 15.23,-0.762 15.738,-1.27 17.77,-1.27 17.77,1.27 15.23,1.27 15.23,-0.762
3D body "444322401.stp": height 11.8, standoff -3.06, extent -21.5,-7.45 21.5,4.45